# Altium schematic symbol library SCH - LOGIC - NEXPERIA 74AHC1G14.SchLib: 1 symbol
Pins are listed as number, name and electrical type; pins without a type are passive.

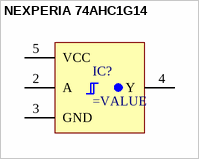
[diagram p0: symbol NEXPERIA 74AHC1G14]

## NEXPERIA 74AHC1G14
designator IC?
pins: 2 A, 3 GND, 4 Y, 5 VCC
1 alternate drawing of the same symbol